# Altium schematic symbol library SCH - AMP AUDIO - ANALOG SSM4567ACBZ-R7.SchLib: 1 symbol
Pins are listed as number, name and electrical type; pins without a type are passive.

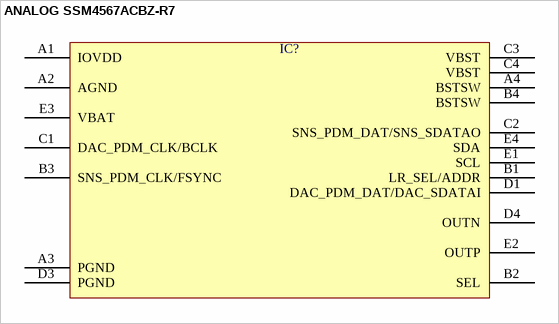
[diagram p0: symbol ANALOG SSM4567ACBZ-R7]

## ANALOG SSM4567ACBZ-R7
designator IC?  (value not drawn)
pins: A1 IOVDD, A2 AGND, A3 PGND, A4 BSTSW, B1 LR_SEL/ADDR, B2 SEL, B3 SNS_PDM_CLK/FSYNC, B4 BSTSW, C1 DAC_PDM_CLK/BCLK, C2 SNS_PDM_DAT/SNS_SDATAO, C3 VBST, C4 VBST, D1 DAC_PDM_DAT/DAC_SDATAI, D3 PGND, D4 OUTN, E1 SCL, E2 OUTP, E3 VBAT, E4 SDA